# Altium footprint library PcbLibLukas.PcbLib: 15 footprints
Each footprint in its own frame and in the unit in brackets; x right, y up, seen from the top. Pads: shape width x height; smd on the part's side, far side on the other; paste and mask are expansions set on the pad; w line width, h text height; cw(c..) or ccw(c..) is an arc to the next point about the centre after c.
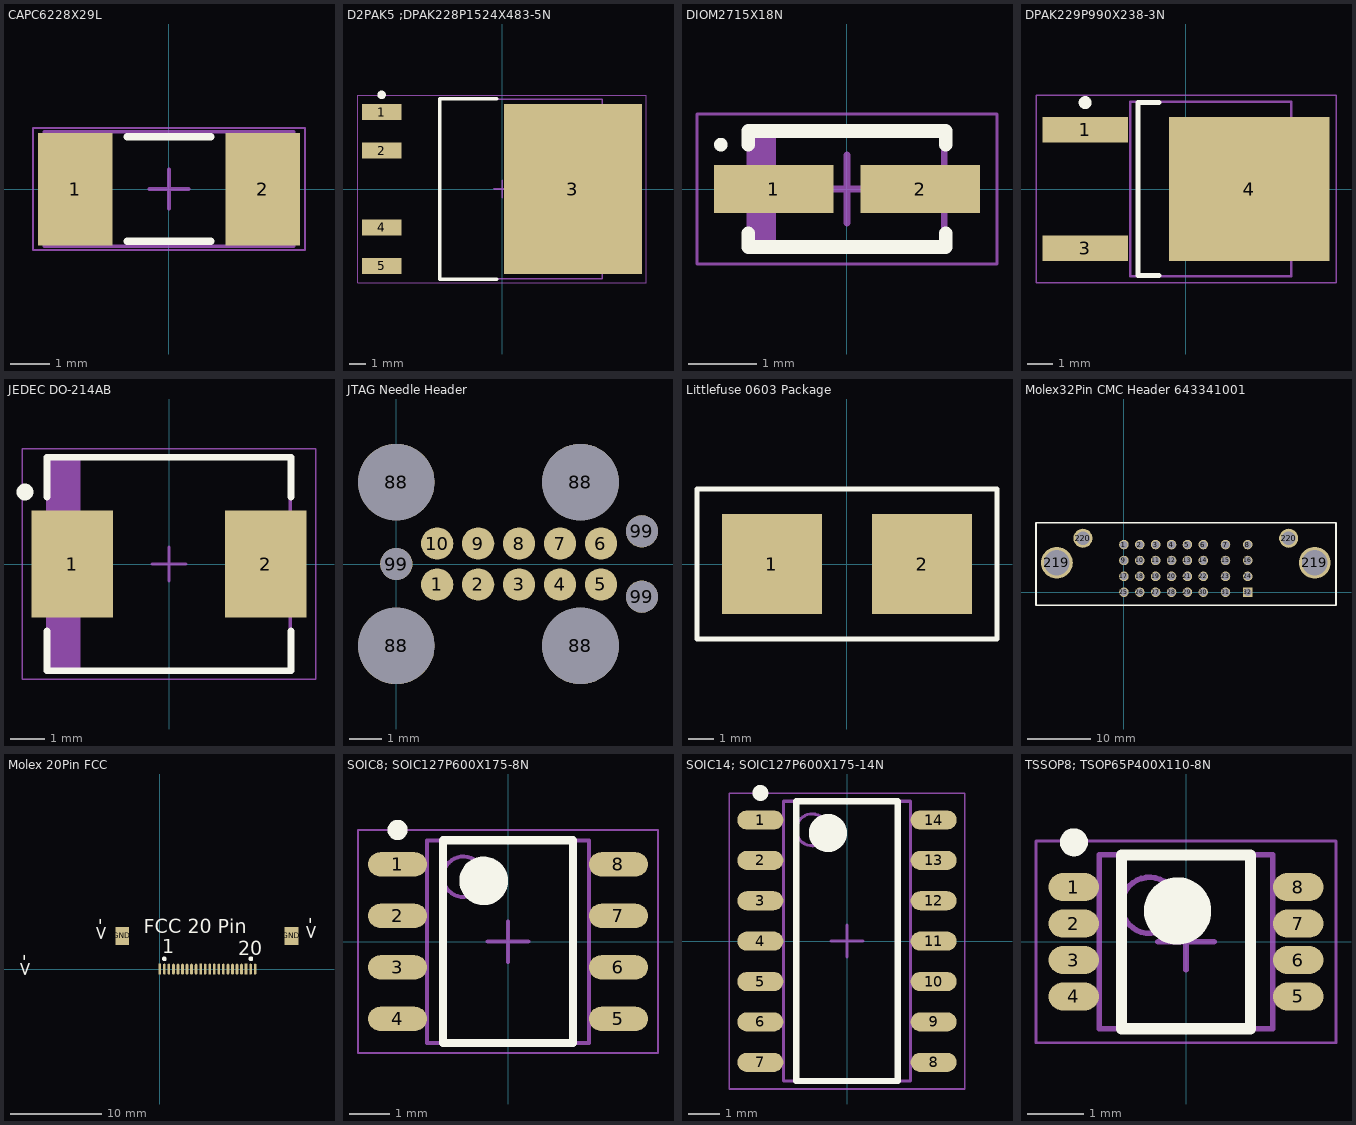
[diagram p0: the footprints below, top view; thin cyan lines are the x and y axes]

## 2004850220 [mm] "Molex 20Pin FCC"

## CAPC6228X29L [mm] "Chip Capacitor, 2-Leads, Body 6,20x2,80mm, IPC High Density"
height 2.9
pads (2):
  rect 1.9x2.85 smd: 1(-2.375,0) 2(2.375,0)
Top Overlay:
  lines w0.2: -1.05,-1.325 1.05,-1.325 ; -1.05,1.325 1.05,1.325
Mechanical 13:
  lines w0.1: -3.15,-1.45 3.15,-1.45 3.15,1.45 -3.15,1.45 -3.15,-1.45
Mechanical 15:
  lines w0.05: -3.45,-1.55 3.45,-1.55 3.45,1.55 -3.45,1.55 -3.45,-1.55
  lines w0.1: -0.5,0 0.5,0 ; 0,-0.5 0,0.5
3D body "CAPC6228X29L.step": height 2.9, standoff 0, extent -3.15,-1.45 3.15,1.45

## D2PAK5 ;DPAK228P1524X483-5N [mm] "D2-PAK, 5-Pads, Body 7,93x8,70mm (max), IPC Medium Density"
height 4.83
pads (5):
  rect 2.35x0.95 smd: 1(-7.15,4.56) 2(-7.15,2.28) 4(-7.15,-2.28) 5(-7.15,-4.56)
  rect 8.2x10.1 smd: 3(4.2,0)
Top Overlay:
  circle w0.25: c-7.15,5.585 r0.125
  lines w0.2: -0.3,-5.35 -3.7,-5.35 -3.7,5.35 -0.3,5.35
Mechanical 13:
  lines w0.1: -3.7,-5.325 -3.7,5.325 5.95,5.325 5.95,-5.325 -3.7,-5.325
Mechanical 15:
  lines w0.05: -8.55,-5.575 -8.55,5.575 8.55,5.575 8.55,-5.575 -8.55,-5.575
  lines w0.1: -0.5,0 0.5,0 ; 0,-0.5 0,0.5
3D body "D2PAK5 ;DPAK228P1524X483-5N.step": height 4.83, standoff 0, extent -7.505,-5.325 7.74,5.325

## DIOM2715X18N [mm] "Molded Diode, 2-Leads, Body 2,70x1,55mm, IPC Medium Density"
height 1.8
pads (2):
  rect 1.75x0.7 smd: 1(-1.075,0) 2(1.075,0)
Top Overlay:
  circle w0.1: c-1.85,0.65 r0.05
  lines w0.2: -1.45,-0.65 -1.45,-0.85 1.45,-0.85 1.45,-0.65 ; -1.45,0.65 -1.45,0.85 1.45,0.85 1.45,0.65
Mechanical 13:
  rectangle: -1.425,-0.85 -1.042,0.85
  lines w0.1: -1.425,-0.85 1.425,-0.85 1.425,0.85 -1.425,0.85 -1.425,-0.85
Mechanical 15:
  lines w0.05: -2.2,-1.1 2.2,-1.1 2.2,1.1 -2.2,1.1 -2.2,-1.1
  lines w0.1: -0.5,0 0.5,0 ; 0,-0.5 0,0.5
3D body "DIOM2715X18N.step": height 1.8, standoff 0, extent -1.645,-0.85 1.645,0.85

## DPAK229P990X238-3N [mm] "D-PAK, 3-Pads, Body 6,21x6,73mm (max), IPC Medium Density"
height 2.38
pads (3):
  rect 3.3x1 smd: 1(-3.9,2.29) 3(-3.9,-2.29)
  rect 6.2x5.55 smd: 4(2.45,0)
Top Overlay:
  circle w0.25: c-3.9,3.34 r0.125
  lines w0.2: -1.05,-3.35 -1.85,-3.35 -1.85,3.35 -1.05,3.35
Mechanical 13:
  lines w0.1: -2.15,-3.375 4.07,-3.375 4.07,3.375 -2.15,3.375 -2.15,-3.375
Mechanical 15:
  lines w0.05: -5.8,-3.625 5.8,-3.625 5.8,3.625 -5.8,3.625 -5.8,-3.625
  lines w0.1: -0.5,0 0.5,0 ; 0,-0.5 0,0.5
3D body: height 2.38, standoff 0.13, extent -2.15,-3.375 4.07,3.375

## JEDEC DO-214AB [mm] "Molded Diode, 2-Leads, Body 6,88x5,90mm, IPC Medium Density"
height 2.45
pads (2):
  rect 2.4x3.15 smd: 1(-2.85,0) 2(2.85,0)
Top Overlay:
  circle w0.25: c-4.25,2.125 r0.125
  lines w0.2: -3.6,-1.975 -3.6,-3.15 3.6,-3.15 3.6,-1.975 ; -3.6,1.975 -3.6,3.15 3.6,3.15 3.6,1.975
Mechanical 13:
  rectangle: -3.575,-3.125 -2.613,3.125
  lines w0.1: -3.575,-3.125 3.575,-3.125 3.575,3.125 -3.575,3.125 -3.575,-3.125
Mechanical 15:
  lines w0.05: -4.325,-3.4 4.325,-3.4 4.325,3.4 -4.325,3.4 -4.325,-3.4
  lines w0.1: -0.5,0 0.5,0 ; 0,-0.5 0,0.5
3D body: height 2.45, standoff 0, extent -3.575,-3.125 3.575,3.125

## JTAG Needle Header [mm]
pads (17):
  round 1 all layers, no hole: 1(1.27,-0.635) 2(2.54,-0.635) 3(3.81,-0.635) 4(5.08,-0.635) 5(6.35,-0.635) 6(6.35,0.635) 7(5.08,0.635) 8(3.81,0.635) 9(2.54,0.635) 10(1.27,0.635)
  round 2.375 hole 2.375 unplated: 88(0,-2.54) 88(0,2.54) 88(5.715,-2.54) 88(5.715,2.54)
  round 1 hole 0.991 unplated: 99(0,0) 99(7.62,-1.015) 99(7.62,1.015)

## Littlefuse 0603 Package [mm]
pads (2):
  rect 4x4 smd: 1(-3,0) 2(3,0)
Top Overlay:
  lines w0.2: -6,-3 6,-3 6,3 -6,3 -6,0 -6,-3

## Molex32Pin CMC Header 643341001 [mm]
pads (36):
  round 1.5 hole 1.2: 1(0,7.5) 2(2.5,7.5) 3(5,7.5) 4(7.5,7.5) 5(10,7.5) 6(12.5,7.5) 7(16,7.5) 8(19.5,7.5) 9(0,5) 10(2.5,5) 11(5,5) 12(7.5,5) 13(10,5) 14(12.5,5) 15(16,5) 16(19.5,5) 17(0,2.5) 18(2.5,2.5) 19(5,2.5) 20(7.5,2.5) 21(10,2.5) 22(12.5,2.5) 23(16,2.5) 24(19.5,2.5) 25(0,0) 26(2.5,0) 27(5,0) 28(7.5,0) 29(10,0) 30(12.5,0) 31(16,0)
  rect 1.5x1.5 hole 1.2: 32(19.5,0)
  round 5 hole 4: 219(-10.55,4.65) 219(30.05,4.65)
  round 3 hole 2.2: 220(-6.45,8.5) 220(25.95,8.5)
Top Overlay:
  lines w0.254: -13.843,-2.032 -13.843,10.922 33.401,10.922 33.401,-2.032 -13.843,-2.032

## Molex 20Pin FCC [mm]
pads (24):
  oval 0.3x1.2 smd: 1(0.5,0) 2(1,0) 3(1.5,0) 4(2,0) 5(2.5,0) 6(3,0) 7(3.5,0) 8(4,0) 10(5,0) 11(5.5,0) 12(6,0) 13(6.5,0) 14(7,0) 15(7.5,0) 16(8,0) 17(8.5,0) 18(9,0) 20(10,0) GND(10.5,0)
  rect 0.3x1.2 smd: 9(4.5,0) 19(9.5,0) GND(0,0)
  rect 1.5x2 all layers, no hole: GND(-4.15,3.65) GND(14.5,3.65)
Top Overlay:
  lines w0.254: 0.631,1.174 ccw(c0.508,1.143) 0.635,1.143 ; 10.156,1.174 ccw(c10.033,1.143) 10.16,1.143
  text "20" at 8.636,1.524 h1.52
  text "1" at 0.254,1.778 h1.52
  text "FCC 20 Pin" at -1.778,3.937 h1.52
  text "->" at -7.112,5.588 h1.52
  text "->" at -15.494,1.651 h1.52
  text "->" at 16.002,5.715 h1.52
3D body "2004850220.stp": height 4.48, standoff 0.02, extent -4.595,-0.375 15.095,5.825

## PCBComponent_1 - duplicate [mm]

## SOIC8; SOIC127P600X175-8N [mm] "SOIC, 8-Leads, Body 4,90x3,90mm, Pitch 1,27mm, IPC Medium Density"
height 1.75
pads (8):
  oval 1.45x0.6 smd: 1(-2.725,1.905) 2(-2.725,0.635) 3(-2.725,-0.635) 4(-2.725,-1.905) 5(2.725,-1.905) 6(2.725,-0.635) 7(2.725,0.635) 8(2.725,1.905)
Top Overlay:
  circle w0.6: c-0.6,1.5 r0.3
  circle w0.25: c-2.725,2.755 r0.125
  lines w0.2: -1.6,-2.5 1.6,-2.5 1.6,2.5 -1.6,2.5 -1.6,-2.5
Mechanical 13:
  circle w0.1: c-1.1,1.6 r0.5
  lines w0.1: -2,-2.5 2,-2.5 2,2.5 -2,2.5 -2,-2.5
Mechanical 15:
  lines w0.05: -3.7,-2.75 3.7,-2.75 3.7,2.75 -3.7,2.75 -3.7,-2.75
  lines w0.1: -0.5,0 0.5,0 ; 0,-0.5 0,0.5
3D body: height 1.75, standoff 0.1, extent -2,-2.5 2,2.5

## SOIC14; SOIC127P600X175-14N [mm] "SOIC, 14-Leads, Body 8,65x3,90mm, Pitch 1,27mm, IPC Medium Density"
height 1.75
pads (14):
  oval 1.45x0.6 smd: 1(-2.725,3.81) 2(-2.725,2.54) 3(-2.725,1.27) 4(-2.725,0) 5(-2.725,-1.27) 6(-2.725,-2.54) 7(-2.725,-3.81) 8(2.725,-3.81) 9(2.725,-2.54) 10(2.725,-1.27) 11(2.725,0) 12(2.725,1.27) 13(2.725,2.54) 14(2.725,3.81)
Top Overlay:
  circle w0.25: c-2.725,4.66 r0.125
  circle w0.6: c-0.6,3.4 r0.3
  lines w0.2: -1.6,-4.4 -1.6,4.4 1.6,4.4 1.6,-4.4 -1.6,-4.4
Mechanical 13:
  circle w0.1: c-1.1,3.5 r0.5
  lines w0.1: -2,-4.4 -2,4.4 2,4.4 2,-4.4 -2,-4.4
Mechanical 15:
  lines w0.05: -3.7,-4.65 -3.7,4.65 3.7,4.65 3.7,-4.65 -3.7,-4.65
  lines w0.1: -0.5,0 0.5,0 ; 0,-0.5 0,0.5
3D body "SOIC14; SOIC127P600X175-14N.step": height 1.75, standoff 0, extent -3,-4.4 3,4.4

## SolderPoint WIre [mm]

## TSSOP8; TSOP65P400X110-8N [mm] "TSOP, 8-Leads, Body 3,00x3,00mm, Pitch 0,65mm, IPC Medium Density"
height 1.1
pads (8):
  oval 0.9x0.5 smd: 1(-2,0.975) 2(-2,0.325) 3(-2,-0.325) 4(-2,-0.975) 5(2,-0.975) 6(2,-0.325) 7(2,0.325) 8(2,0.975)
Top Overlay:
  circle w0.25: c-2,1.775 r0.125
  circle w0.6: c-0.15,0.55 r0.3
  lines w0.2: -1.15,-1.55 -1.15,1.55 1.15,1.55 1.15,-1.55 -1.15,-1.55
Mechanical 13:
  circle w0.1: c-0.65,0.65 r0.5
  lines w0.1: -1.55,-1.55 -1.55,1.55 1.55,1.55 1.55,-1.55 -1.55,-1.55
Mechanical 15:
  lines w0.05: -2.675,-1.8 -2.675,1.8 2.675,1.8 2.675,-1.8 -2.675,-1.8
  lines w0.1: -0.5,0 0.5,0 ; 0,-0.5 0,0.5
3D body: height 1.1, standoff 0.15, extent -1.55,-1.55 1.55,1.55